# EAGLE library part MAX3420 (library MAXIM)
MAX3420E USB Peripheral Controller with SPI Interface The MAX3420E contains the digital logic and analog circuitry necessary to implement a full-speed USB peripheral compliant to USB specification rev 2.0. A built-in full-speed transceiver features ±15kV ESD protection and programmable USB connect and disconnect. An internal serial-interface engine (SIE) handles low-level USB protocol details such as error checking and bus retries. The MAX3420E operates using a register set accessed by an SPI? interface that operates up to 26MHz. Any SPI master (microprocessor, ASIC, DSP, etc.) can add USB functionality using the simple 3- or 4-wire SPI interface.
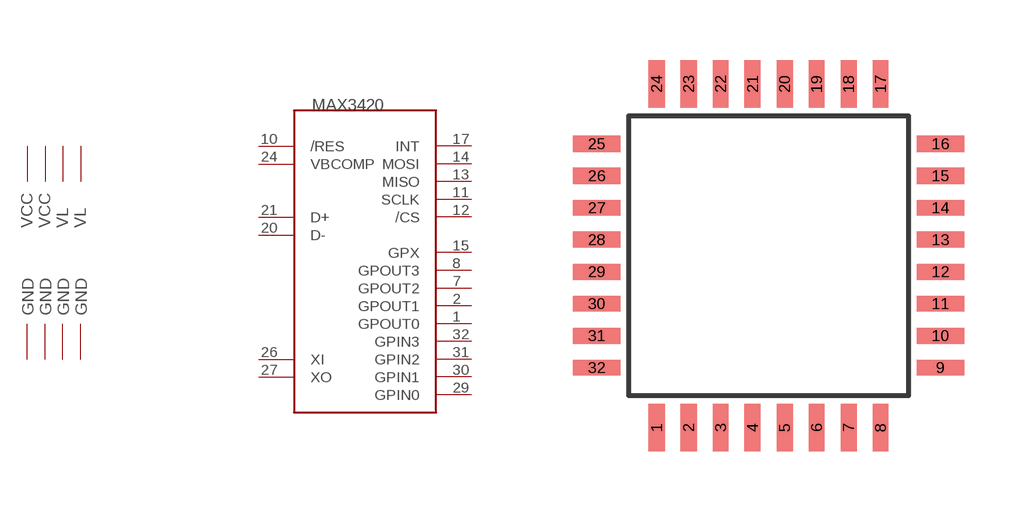
[diagram p0: symbol with the pads of LQFP32; footprint LQFP32]

Designator prefix IC; gates PWR=MAX3420PWR G$1=MAX3420

## MAX3420E  [LQFP32]
1  G$1:GPOUT0
2  G$1:GPOUT1
3  PWR:VL$1
4  PWR:VL$2
5  PWR:GND$1
6  PWR:GND$2
7  G$1:GPOUT2
8  G$1:GPOUT3
10  G$1:/RES
11  G$1:SCLK
12  G$1:/CS
13  G$1:MISO
14  G$1:MOSI
15  G$1:GPX
17  G$1:INT
18  PWR:GND$3
19  PWR:GND$4
20  G$1:D-
21  G$1:D+
22  PWR:VCC$1
23  PWR:VCC$2
24  G$1:VBCOMP
26  G$1:XI
27  G$1:XO
29  G$1:GPIN0
30  G$1:GPIN1
31  G$1:GPIN2
32  G$1:GPIN3

## Footprint LQFP32 (pad centres in mm)
LQFP-32 package 7x7 mm case, 0.8 mm lead pitch
smd 0.4 x 1.2: 1 -2.8,-4.3; 2 -2,-4.3; 3 -1.2,-4.3; 4 -0.4,-4.3; 5 0.4,-4.3; 6 1.2,-4.3; 7 2,-4.3; 8 2.8,-4.3; 17 2.8,4.3; 18 2,4.3; 19 1.2,4.3; 20 0.4,4.3; 21 -0.4,4.3; 22 -1.2,4.3; 23 -2,4.3; 24 -2.8,4.3
smd 1.2 x 0.4: 9 4.3,-2.8; 10 4.3,-2; 11 4.3,-1.2; 12 4.3,-0.4; 13 4.3,0.4; 14 4.3,1.2; 15 4.3,2; 16 4.3,2.8; 25 -4.3,2.8; 26 -4.3,2; 27 -4.3,1.2; 28 -4.3,0.4; 29 -4.3,-0.4; 30 -4.3,-1.2; 31 -4.3,-2; 32 -4.3,-2.8